# Altium schematic symbol library CNY70.SchLib: 1 symbol
Pins are listed as number, name and electrical type; pins without a type are passive.

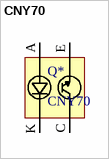
[diagram p0: symbol CNY70]

## CNY70
designator Q*
footprint CNY70_LIB
pins: A 0, C 3, E 1, K 2